# Altium integrated library 8-215079-4.IntLib: 2 symbols
Pins are listed as number, name and electrical type; pins without a type are passive.

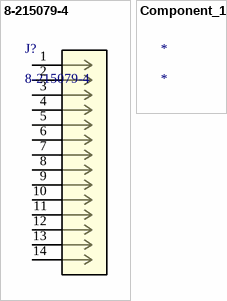
[diagram p0: symbols 8-215079-4 to Component_1]

## 8-215079-4
designator J?
No Description Available; Mfr_Name: TE Connectivity; Type: DEV; Copyright: Copyright (C) 2022 Ultra Librarian. All rights reserved.; Manufacturer_Part_Number: 8-215079-4; Digi-Key_Part_Number_1: A99468CT-ND; Digi-Key_Part_Number_2: A99468TR-ND; RefDes: RefDes
footprint CONN14_8-215079-4_TEC
pins: 1, 2, 3, 4, 5, 6, 7, 8, 9, 10, 11, 12, 13, 14

## Component_1
designator *